# Altium schematic symbol library 0402r.SchLib: 1 symbol
Pins are listed as number, name and electrical type; pins without a type are passive.

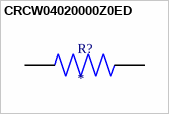
[diagram p0: symbol CRCW04020000Z0ED]

## CRCW04020000Z0ED
designator R?
0 Ohms Jumper 0.2W, 1/5W Chip Resistor 0402 (1005 Metric) Automotive AEC-Q200, Pulse Withstanding Thick Film; MF: Vishay; MP: CRCW04020000Z0ED; SnapEDA_Link: https://www.snapeda.com/parts/CRCW04020000Z0ED/Vishay+Dale/view-part/?ref=snap; Package: 1005 Panasonic Electronic Components; Value: *; Check_prices: https://www.snapeda.com/parts/CRCW04020000Z0ED/Vishay+Dale/view-part/?ref=eda
footprint RESC1005X40N
pins: 1, 2